# Altium footprint library JTAG_Header_Sullins_GRPB071VWTC-RC_7-Pos.PcbLib: 1 footprints
Each footprint in its own frame and in the unit in brackets; x right, y up, seen from the top. Pads: shape width x height; smd on the part's side, far side on the other; paste and mask are expansions set on the pad; w line width, h text height; cw(c..) or ccw(c..) is an arc to the next point about the centre after c.
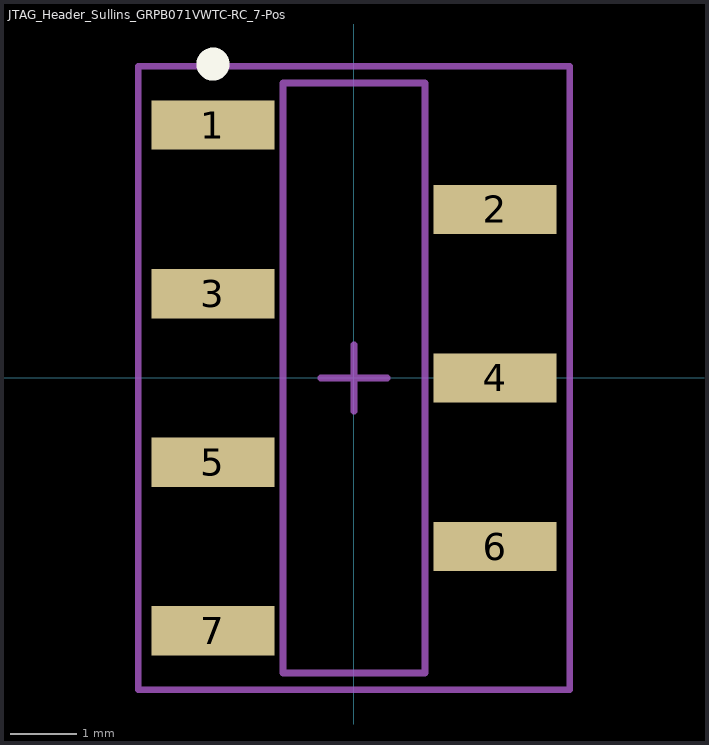
[diagram p0: the footprint, top view; thin cyan lines are the x and y axes]

## JTAG_Header_Sullins_GRPB071VWTC-RC_7-Pos [mm]
height 5
pads (7):
  rect 1.85x0.74 smd: 1(-2.125,3.81) 2(2.125,2.54) 3(-2.125,1.27) 4(2.125,0) 5(-2.125,-1.27) 6(2.125,-2.54) 7(-2.125,-3.81)
Top Overlay:
  circle w0.25: c-2.125,4.73 r0.125
Mechanical 13:
  lines w0.1: -1.07,-4.445 1.07,-4.445 1.07,4.445 -1.07,4.445 -1.07,-4.445
Mechanical 15:
  lines w0.1: -0.5,0 0.5,0 ; 0,-0.5 0,0.5 ; -3.25,-4.7 3.25,-4.7 3.25,4.7 -3.25,4.7 -3.25,-4.7
3D body: height 5, standoff 0, extent -1.07,-4.445 1.07,4.445